# Altium schematic symbol library discret_ic.schlib: 65 symbols
Pins are listed as number, name and electrical type; pins without a type are passive.

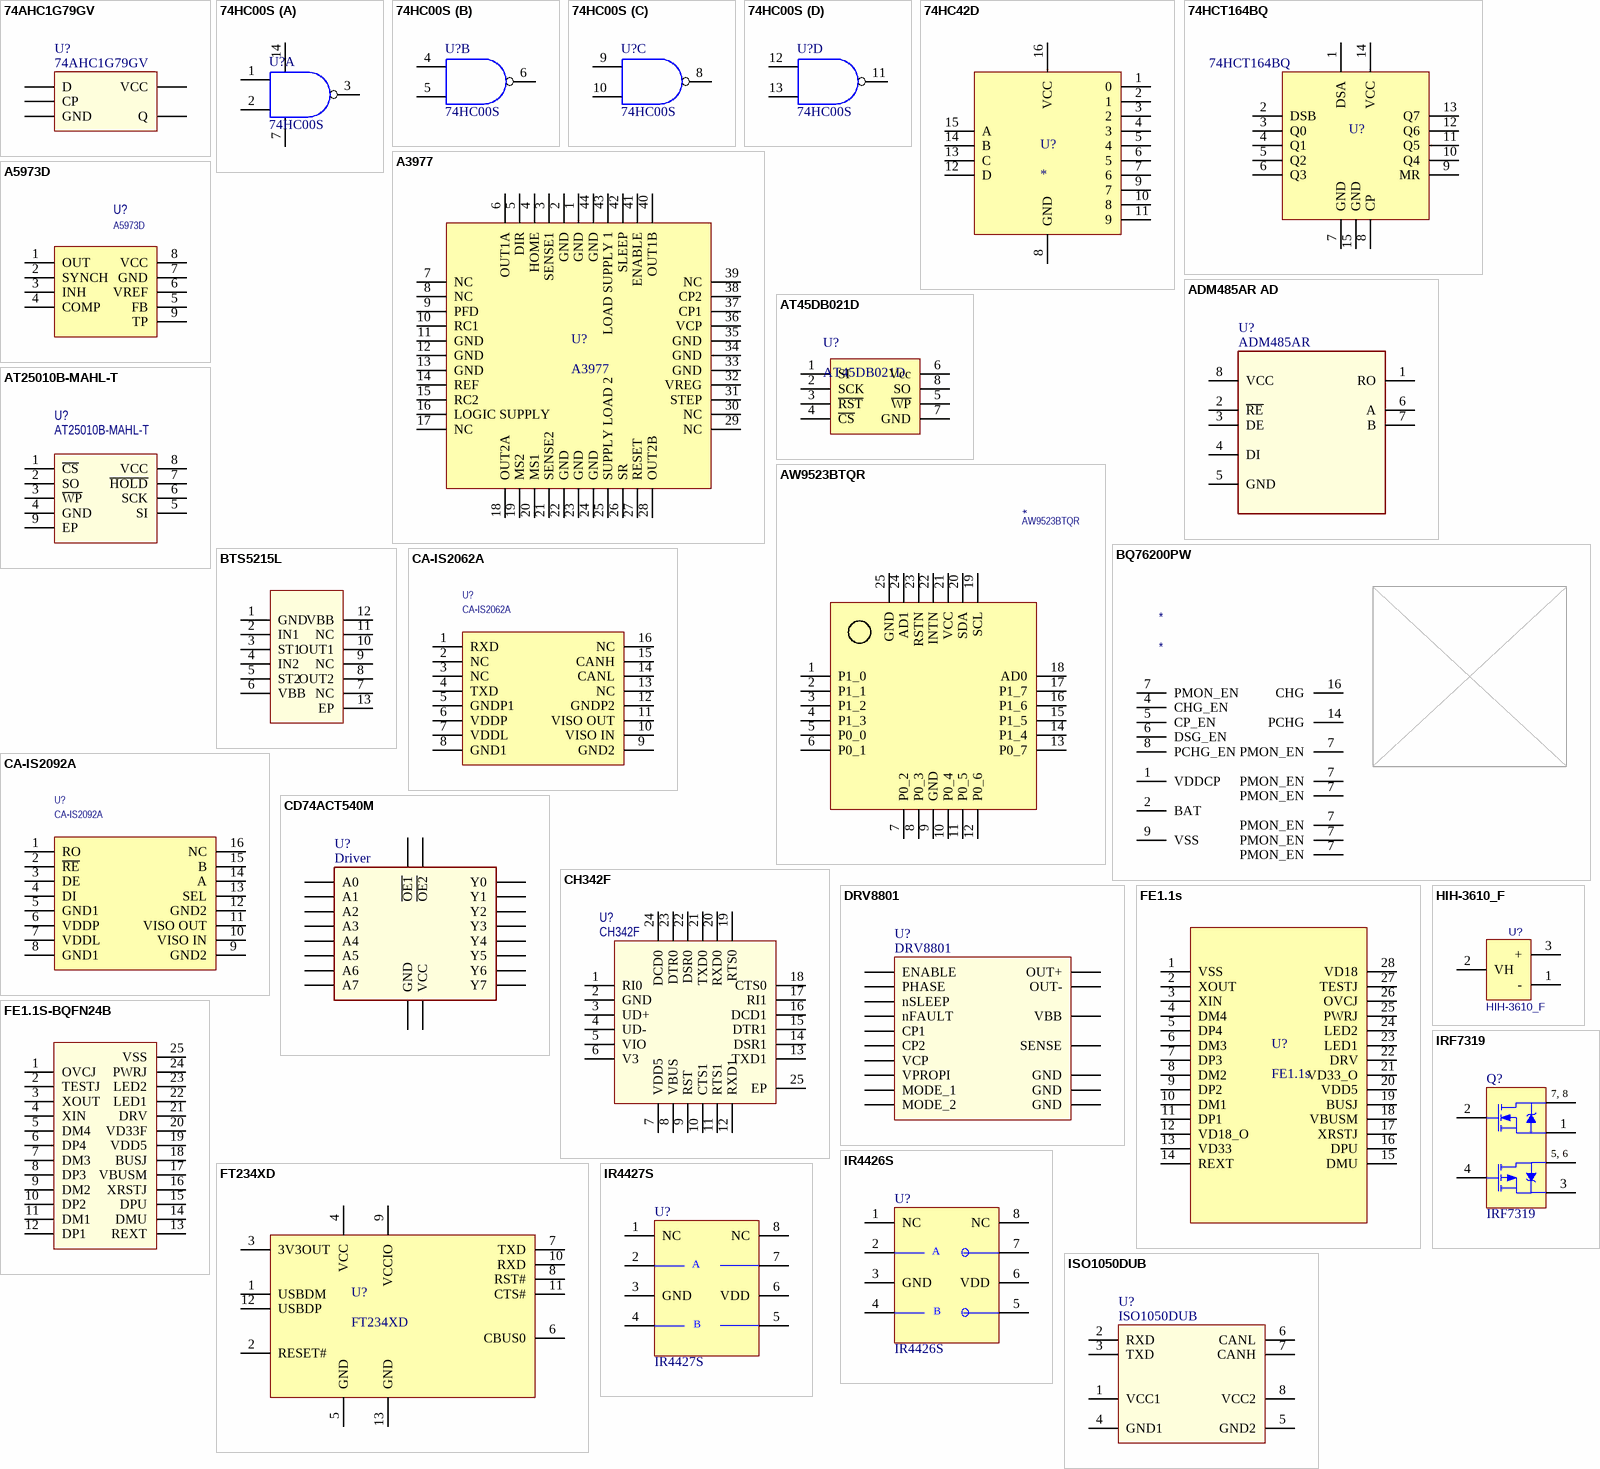
[diagram p0: symbols 74AHC1G79GV to ISO1050DUB]

## 74AHC1G79GV
designator U?
Single D-type flip-flop; positive-edge trigger
footprint SOT753 ( SC-74A )
pins: 1 D, 2 CP, 3 GND, 4 Q, 6 VCC

## 74HC00S
designator U?
Quadruple 2-Input Positive-NAND Gate; Published: 8-Jun-2000; LatestRevisionDate: 13-Apr-2006; LatestRevisionNote: IPC-7351 Footprint Added.; DatasheetVersion: May-1997; PackageVersion: Jan-1998; PackageReference: D014; Publisher: Altium Limited; PackageDescription: 14-Pin Small Outline Integrated Circuit 1.27 mm Pitch; Code_IPC: SOIC127P600-14; ComponentLink1Description: Manufacturer Link; ComponentLink1URL: http://www.ti.com/; ComponentLink2Description: Datasheet; ComponentLink2URL: http://www-s.ti.com/sc/ds/sn74hc00.pdf
footprint SO-14 (14-Pin Small Outline Integrated Circuit 1.27 mm Pitch, IPC Medium Density)
footprint SO-14_L (14-Pin Small Outline Integrated Circuit 1.27 mm Pitch, IPC High Density)
footprint SO-14_M (14-Pin Small Outline Integrated Circuit 1.27 mm Pitch, IPC Low Density)
signal-integrity model SN74HC00D
part A pins: 1 A, 2 B, 3 Y, 7 GND, 14 VCC
part B pins: 4 A, 5 B, 6 Y
part C pins: 8 Y, 9 A, 10 B
part D pins: 11 Y, 12 A, 13 B

## 74HC42D
designator U?
footprint SO-16
pins: 1 0, 2 1, 3 2, 4 3, 5 4, 6 5, 7 6, 8 GND, 9 7, 10 8, 11 9, 12 D, 13 C, 14 B, 15 A, 16 VCC

## 74HCT164BQ
designator U?
footprint DVQFN-14 (QFN, 14-Leads, Body 2,50x3,00mm, Pitch 0,50mm, Thermal Pad 1,00x1,50mm, IPC Low Density)
pins: 1 DSA, 2 DSB, 3 Q0, 4 Q1, 5 Q2, 6 Q3, 7 GND, 8 CP, 9 MR, 10 Q4, 11 Q5, 12 Q6, 13 Q7, 14 VCC, 15 GND

## A3977
designator U?
footprint PLCC44 (Leaded Chip Carrier, 44-Leads, Body 9,90x17,53mm, Pitch 1,270mm, IPC Medium Density)
pins: 1 GND, 2 GND, 3 SENSE1, 4 HOME, 5 DIR, 6 OUT1A, 7 NC, 8 NC, 9 PFD, 10 RC1, 11 GND, 12 GND, 13 GND, 14 REF, 15 RC2, 16 LOGIC SUPPLY, 17 NC, 18 OUT2A, 19 MS2, 20 MS1, 21 SENSE2, 22 GND, 23 GND, 24 GND, 25 SUPPLY LOAD 2, 26 SR, 27 RESET, 28 OUT2B, 29 NC, 30 NC, 31 STEP, 32 VREG, 33 GND, 34 GND, 35 GND, 36 VCP, 37 CP1, 38 CP2, 39 NC, 40 OUT1B, 41 ENABLE, 42 SLEEP, 43 LOAD SUPPLY 1, 44 GND

## A5973D
designator U?
Step-up/down IC
footprint HSOP-8
pins: 1 OUT "Switch Collector", 2 SYNCH "Switch Emitter", 3 INH "Timing capacitor", 4 COMP, 5 FB "Comparator Inverting Input", 6 VREF, 7 GND "Ipk Sense", 8 VCC "Driver Collector", 9 TP "Comparator Inverting Input"

## ADM485AR AD
designator U?, comment ADM485AR
1/1 Transceiver RS422, RS485 8-SOIC -40 to +85; Part: ADM485AR
footprint SOIC-8 TI
pins: 1 RO, 2 ~{RE}, 3 DE, 4 DI, 5 GND, 6 A, 7 B, 8 VCC

## AT45DB021D
designator U?
2Mbit memory IC
footprint SO-8 (SOIC, 8-Leads, Body 4.9x3.9mm, Pitch 1.27mm, IPC Medium Density)
pins: 1 SI "Serial Input", 2 SCK "Serial clock", 3 ~{RST} "Reset", 4 ~{CS} "Chip select", 5 ~{WP} "Write protect", 6 Vcc, 7 GND, 8 SO "Serial output"

## AT25010B-MAHL-T
designator U?
SPI EEPROM
footprint UDFN-MU8 (SON, 8-Leads, Body 2x3mm, Pitch 0.5mm, Microchip Recommended)
pins: 1 ~{CS}, 2 SO, 3 ~{WP}, 4 GND, 5 SI, 6 SCK, 7 ~{HOLD}, 8 VCC, 9 EP

## AW9523BTQR
designator *
footprint VFQFPN-24_L4.0-W4.0-P0.50-BL-EP2.8
pins: 1 P1_0, 2 P1_1, 3 P1_2, 4 P1_3, 5 P0_0, 6 P0_1, 7 P0_2, 8 P0_3, 9 GND, 10 P0_4, 11 P0_5, 12 P0_6, 13 P0_7, 14 P1_4, 15 P1_5, 16 P1_6, 17 P1_7, 18 AD0, 19 SCL, 20 SDA, 21 VCC, 22 INTN, 23 RSTN, 24 AD1, 25 GND

## BQ76200PW
designator *
pins: 1 VDDCP, 2 BAT, 4 CHG_EN, 5 CP_EN, 6 DSG_EN, 7 PMON_EN, 7 PMON_EN, 7 PMON_EN, 7 PMON_EN, 7 PMON_EN, 7 PMON_EN, 7 PMON_EN, 8 PCHG_EN, 9 VSS, 14 PCHG, 16 CHG

## BTS5215L
designator U?  (value not drawn)
Manufacturer: Infineon(英飞凌); Add into BOM: yes; Number of Channels: 2; Control Input Logic: Active High; Voltage - Supply: 5.5V~40V; RDS(on): 90mΩ; Symbol: BTS5215L; Device: BTS5215L; LCSC Part Name: BTS5215L; Supplier Part: C386329; Manufacturer Part: BTS5215L; Supplier Footprint: DSO-12; JLCPCB Part Class: Extended Part; Datasheet: https://atta.szlcsc.com/upload/public/pdf/source/20190419/C386329_63BABE9538D17D077D4C8D10D988F5A3.pdf; Supplier: LCSC; Convert to PCB: yes; Type: High-side switch; Operating Temperature	-: -40℃~+150℃
footprint SOP100P1030X260-13N-1-V (SOP,1.00mm pitch;12 pin,7.50mm W X 6.40mm L X 2.60mm H body (w/thermal tab))
pins: 1 GND, 2 IN1, 3 ST1, 4 IN2, 5 ST2, 6 VBB, 7 NC, 8 OUT2, 9 NC, 10 OUT1, 11 NC, 12 VBB, 13 EP

## CA-IS2062A
designator U?
ISO CAN_transiever; Part: CA-IS2062A; JLCPCBPart: C22438481
footprint LGA-16_L5.2-W4.7-P0.65-TL_CA-IS2062A-FRANK2
pins: 1 RXD "Driver input", 2 NC "Ground", 3 NC "Supply voltage", 4 TXD "Receiver output", 5 GNDP1 "No connection", 6 VDDP "Low bus output", 7 VDDL "High bus outpu", 8 GND1 "No connection", 9 GND2 "Driver input", 10 VISO IN "Ground", 11 VISO OUT "Supply voltage", 12 GNDP2 "Receiver output", 13 NC "No connection", 14 CANL "Low bus output", 15 CANH "High bus outpu", 16 NC "No connection"

## CA-IS2092A
designator U?
ISO RS485; Part: CA-IS2092A; JLCPCBPart: C18185406
footprint LGA-16_L5.2-W4.7-P0.65-TL_CA-IS2062A-FRANK2
pins: 1 RO "Driver input", 2 ~{RE} "Ground", 3 DE "Supply voltage", 4 DI "Receiver output", 5 GND1 "No connection", 6 VDDP "Low bus output", 7 VDDL "High bus outpu", 8 GND1 "No connection", 9 GND2 "Driver input", 10 VISO IN "Ground", 11 VISO OUT "Supply voltage", 12 GND2 "Receiver output", 13 SEL "No connection", 14 A "Low bus output", 15 B "High bus outpu", 16 NC "No connection"

## CD74ACT540M
designator U?, comment Driver
LOGIC, BUFF/DVR TRI-ST OCTAL, 20SOICW; Type de buffer: Memoire tampon, inverseur; Famille Logique/ Numero de base: 74ACT540; Type de boitier CI logique: SOIC; Nombre de broches: 20Broche(s); Tension, alimentation min.: 4.5V; Part: CD74ACT540M
footprint SOIC-20 TI
pins: 1 ~{OE1}, 2 A0, 3 A1, 4 A2, 5 A3, 6 A4, 7 A5, 8 A6, 9 A7, 10 GND, 11 Y7, 12 Y6, 13 Y5, 14 Y4, 15 Y3, 16 Y2, 17 Y1, 18 Y0, 19 ~{OE2}, 20 VCC

## CH342F
designator U?
Part: CH342F
footprint QFN50P400X400X80-25N-D
pins: 1 RI0, 2 GND, 3 UD+, 4 UD-, 5 VIO, 6 V3, 7 VDD5, 8 VBUS, 9 RST, 10 CTS1, 11 RTS1, 12 RXD1, 13 TXD1, 14 DSR1, 15 DTR1, 16 DCD1, 17 RI1, 18 CTS0, 19 RTS0, 20 RXD0, 21 TXD0, 22 DSR0, 23 DTR0, 24 DCD0, 25 EP

## DRV8801
designator U?
Full-Bridge Motor Driver
footprint WQFN-16
pins: 1 PHASE, 2 GND, 3 nSLEEP, 4 ENABLE, 5 MODE_2, 6 OUT+, 7 SENSE, 8 VBB, 9 OUT-, 10 CP1, 11 CP2, 12 GND, 13 VCP, 14 VPROPI, 15 nFAULT, 16 MODE_1, 17 GND

## FE1.1s
designator U?
footprint TSOP64P600X160-28N (TSOP, 28-Leads, Body 9,90x3,90mm, Pitch 0,64mm, IPC Medium Density)
pins: 1 VSS, 2 XOUT, 3 XIN, 4 DM4, 5 DP4, 6 DM3, 7 DP3, 8 DM2, 9 DP2, 10 DM1, 11 DP1, 12 VD18_O, 13 VD33, 14 REXT, 15 DMU, 16 DPU, 17 XRSTJ, 18 VBUSM, 19 BUSJ, 20 VDD5, 21 VD33_O, 22 DRV, 23 LED1, 24 LED2, 25 PWRJ, 26 OVCJ, 27 TESTJ, 28 VD18

## FE1.1S-BQFN24B
designator U?  (value not drawn)
Manufacturer: TERMINUS; Add into BOM: yes; Symbol: FE1.1S-BQFN24B; Device: FE1.1S-BQFN24B; LCSC Part Name: USB 2.0 4-端口集线器控制器; Supplier Part: C6776948; Manufacturer Part: FE1.1S-BQFN24B; Supplier Footprint: WQFN-24; JLCPCB Part Class: Extended Part; Datasheet: https://atta.szlcsc.com/upload/public/pdf/source/20230614/ED67D6CC784350C7C68F98E68B5A1A46.pdf; Supplier: LCSC; Convert to PCB: yes
footprint WQFN-24_L4.0-W4.0-P0.50-TL-EP2.7
pins: 1 OVCJ, 2 TESTJ, 3 XOUT, 4 XIN, 5 DM4, 6 DP4, 7 DM3, 8 DP3, 9 DM2, 10 DP2, 11 DM1, 12 DP1, 13 REXT, 14 DMU, 15 DPU, 16 XRSTJ, 17 VBUSM, 18 BUSJ, 19 VDD5, 20 VD33F, 21 DRV, 22 LED1, 23 LED2, 24 PWRJ, 25 VSS

## FT234XD
designator U?
footprint DFN-12
pins: 1 USBDM, 2 RESET#, 3 3V3OUT, 4 VCC, 5 GND, 6 CBUS0, 7 TXD, 8 RST#, 9 VCCIO, 10 RXD, 11 CTS#, 12 USBDP, 13 GND

## HIH-3610_F
designator U?
footprint TO-92SF
pins: 1 - "GND", 2 VH, 3 + "Vcc"

## IR4426S
designator U?
Dual High-Speed 1.5A MOSFET Driver; Published: 16-Jan-2001; LatestRevisionDate: 13-Apr-2006; LatestRevisionNote: IPC-7351 Footprint Added.; DatasheetVersion: Mar-1993; PackageReference: NSO8; Publisher: Altium Limited; PackageDescription: 8-Pin Small Outline Integrated Circuit 1.27 mm Pitch; Code_JEDEC: MS-012-AA; Code_IPC: SOIC127P600-8; ComponentLink1Description: Manufacturer Link; ComponentLink1URL: http://www.maxim-ic.com/; ComponentLink2Description: Datasheet; ComponentLink2URL: http://pdfserv.maxim-ic.com/en/ds/MAX4426-MAX4428.pdf
footprint SO-8 (SOIC, 8-Leads, Body 4.9x3.9mm, Pitch 1.27mm, IPC Medium Density)
footprint SO-8_L (SOIC, 8-Leads, Body 4.9x3.9mm, Pitch 1.27mm, IPC High Density)
footprint SO-8_M (SOIC, 8-Leads, Body 4.9x3.9mm, Pitch 1.27mm, IPC Low Density)
pins: 1 NC, 2 INA, 3 GND, 4 INB, 5 ~{OUTB}, 6 VDD, 7 ~{OUTA}, 8 NC
text: A; B

## IR4427S
designator U?
Dual High-Speed 1.5A MOSFET Driver; Published: 16-Jan-2001; LatestRevisionDate: 13-Apr-2006; LatestRevisionNote: IPC-7351 Footprint Added.; DatasheetVersion: Mar-1993; PackageReference: NSO8; Publisher: Altium Limited; PackageDescription: 8-Pin Small Outline Integrated Circuit 1.27 mm Pitch; Code_JEDEC: MS-012-AA; Code_IPC: SOIC127P600-8; ComponentLink1Description: Manufacturer Link; ComponentLink1URL: http://www.maxim-ic.com/; ComponentLink2Description: Datasheet; ComponentLink2URL: http://pdfserv.maxim-ic.com/en/ds/MAX4426-MAX4428.pdf
footprint SO-8 (SOIC, 8-Leads, Body 4.9x3.9mm, Pitch 1.27mm, IPC Medium Density)
footprint SO-8_L (SOIC, 8-Leads, Body 4.9x3.9mm, Pitch 1.27mm, IPC High Density)
footprint SO-8_M (SOIC, 8-Leads, Body 4.9x3.9mm, Pitch 1.27mm, IPC Low Density)
pins: 1 NC, 2 INA, 3 GND, 4 INB, 5 OUTB, 6 VDD, 7 OUTA, 8 NC
text: A; B

## IRF7319
designator Q?
HEXFET Power MOSFET; Published: 8-Jun-2000; LatestRevisionDate: 13-Apr-2006; LatestRevisionNote: IPC-7351 Footprint Added.; DatasheetVersion: Sep-1997; PackageVersion: Feb-2001; PackageReference: SO-8; Publisher: Altium Limited; PackageDescription: 8-Pin Plastic Small Outline Integrated Circuit 1.27 mm Pitch; Code_JEDEC: MS-012-AA; Code_IPC: SOIC127P600-8; ComponentLink1Description: Manufacturer Link; ComponentLink1URL: http://www.irf.com/; ComponentLink2Description: Datasheet; ComponentLink2URL: http://www.irf.com/product-info/datasheets/data/IRFN140.pdf
footprint SO-8 (SOIC, 8-Leads, Body 4.9x3.9mm, Pitch 1.27mm, IPC Medium Density)
footprint SO-8_L (SOIC, 8-Leads, Body 4.9x3.9mm, Pitch 1.27mm, IPC High Density)
footprint SO-8_M (SOIC, 8-Leads, Body 4.9x3.9mm, Pitch 1.27mm, IPC Low Density)
pins: 1 S1, 2 G1, 3 S2, 4 G2, 5 D2, 6 D2, 7 D1, 8 D1
text: 7, 8; 5, 6

## ISO1050DUB
designator U?
Isolated CAN Transceiver
footprint SOP-8
pins: 1 VCC1, 2 RXD, 3 TXD, 4 GND1, 5 GND2, 6 CANL, 7 CANH, 8 VCC2

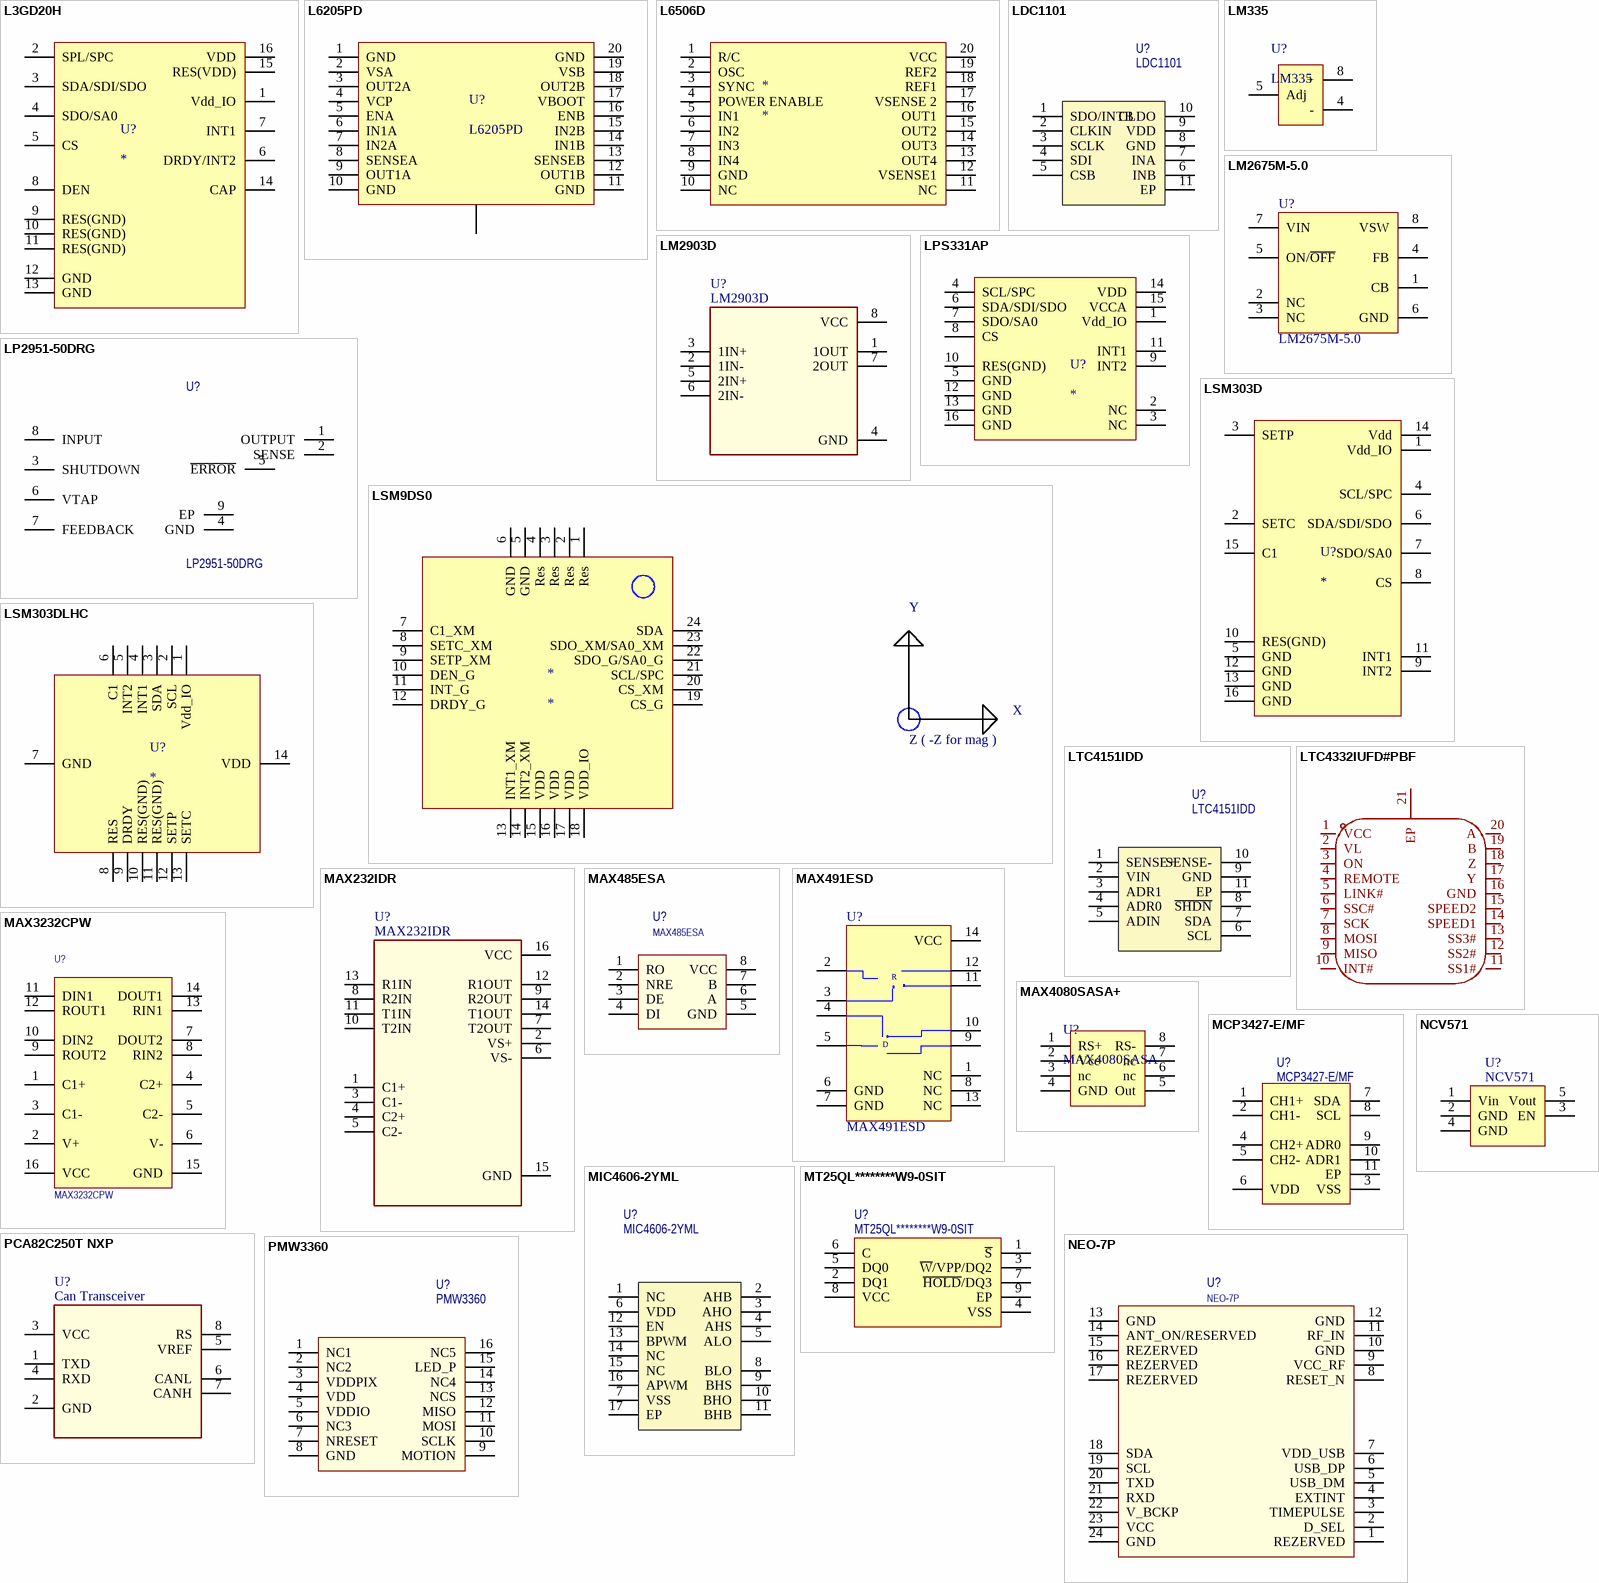
[diagram p1: symbols L3GD20H to PMW3360]

## L3GD20H
designator U?
footprint L3GD20H
pins: 1 Vdd_IO, 2 SPL/SPC, 3 SDA/SDI/SDO, 4 SDO/SA0, 5 CS, 6 DRDY/INT2, 7 INT1, 8 DEN, 9 RES(GND), 10 RES(GND), 11 RES(GND), 12 GND, 13 GND, 14 CAP, 15 RES(VDD), 16 VDD

## L6205PD
designator U?
footprint PowerSO20withPAD
pins: 1 GND, 2 VSA, 3 OUT2A, 4 VCP, 5 ENA, 6 IN1A, 7 IN2A, 8 SENSEA, 9 OUT1A, 10 GND, 11 GND, 12 OUT1B, 13 SENSEB, 14 IN1B, 15 IN2B, 16 ENB, 17 VBOOT, 18 OUT2B, 19 VSB, 20 GND, 21 GND

## L6506D
designator *
footprint SOIC20N (SOIC, 20-Leads, Body 12,80x7,50mm, Pitch 1,27mm, IPC Medium Density)
pins: 1 R/C, 2 OSC, 3 SYNC, 4 POWER ENABLE, 5 IN1, 6 IN2, 7 IN3, 8 IN4, 9 GND, 10 NC, 11 NC, 12 VSENSE1, 13 OUT4, 14 OUT3, 15 OUT2, 16 OUT1, 17 VSENSE 2, 18 REF1, 19 REF2, 20 VCC

## LDC1101
designator U?
Part: LDC1101
footprint VSON-10_L3.0-W3.0-P0.50-BL-EP_TPS62410DRCR
pins: 1 SDO/INTB "Kelvin Sense of the VIN Pin.", 2 CLKIN "Supply Voltage Input. Accepts 7V to 80V. The voltage at this pin is monitored by the onboard ADC with a fullscale input range of 102.4V. SENSE+ must be connected  to VIN for proper ADC readout.", 3 SCLK "I2C Device Address Inputs. Connecting  ADR1 and ADR0 to VIN, GND or leaving the pins open  configures one of nine possible addresses.", 4 SDI "I2C Device Address Inputs. Connecting  ADR1 and ADR0 to VIN, GND or leaving the pins open  configures one of nine possible addresses.", 5 CSB "ADC Input. The onboard ADC measures voltage  range between 0V and 2.048V. Tie to GND if unused.", 6 INB "I2C Bus Clock Input. Data is shifted in and out at  the SDA pin on rising edges of SCL. This pin is driven  by an open-collector output from a master controller. An  external pull-up resistor or current source is required (See Datasheet)", 7 INA "I2C Bus Data Input/Output. Used  for shifting in address, command or data bits and sending  out data. An external pull-up resistor or current source  is required and can be placed between SDA and VIN.   The voltage at SDA is (See Datasheet)", 8 GND "Shutdown Input. Internally pulled  up to 6.3V. Pull this pin below 1V to force the LTC4151  into shutdown mode. Leave this pin open if unused.", 9 VDD "Device Ground.", 10 CLDO "High Side Current Sense Input. Connect an  external sense resistor between SENSE+  and SENSE-.  The differential voltage between SENSE+ and SENSE-  is  monitored by the onboard ADC with a full-scale sense  voltage of 81.92mV.", 11 EP "I2C Bus Clock Input. Data is shifted in and out at  the SDA pin on rising edges of SCL. This pin is driven  by an open-collector output from a master controller. An  external pull-up resistor or current source is required (See Datasheet)"

## LM335
designator U?
Temperature sensor
footprint SO-8 (SOIC, 8-Leads, Body 4.9x3.9mm, Pitch 1.27mm, IPC Medium Density)
pins: 4 - "GND", 5 Adj, 8 + "Vcc"

## LM2675M-5.0
designator U?
SIMPLE SWITCHER® Power Converter High Efficiency 1A Step-Down Voltage Regulator, 8-pin Narrow SOIC; Manufacturer: National Semiconductor; PackageTopMarking: NSZXTT*2675*M5.0; PowerWise: N; Published: 4-Dec-2008; DatasheetVersion: Jun-2005; PackageVersion: revM, May-2009; PackageReference: M08A; Publisher: Altium Limited; PackageDescription: SOIC Narrow, 4.9 x 3.9 x 1.45mm, 8 Lead, 1.27mm Pitch; Supplier 1: Farnell; Supplier Part Number 1: 9489746; Part: LM2675M-5.0; RoHS: N; PinCount: 8; CompType: Switcher; Code_JEDEC: MS-012-AA; Code_IPC: SOIC127P600-8; ComponentLink1Description: LM2675 Datasheet; ComponentLink1URL: http://www.national.com/ds/LM/LM2675.pdf; ComponentLink2Description: LM2675 Web Page; ComponentLink2URL: http://www.national.com/pf/LM/LM2675.html; ComponentLink3Description: M08A Package Page; ComponentLink3URL: http://www.national.com/packaging/folders/m08a.html
footprint SO-8 (SOIC, 8-Leads, Body 4.9x3.9mm, Pitch 1.27mm, IPC Medium Density)
footprint SO-8_L (SOIC, 8-Leads, Body 4.9x3.9mm, Pitch 1.27mm, IPC High Density)
footprint SO-8_M (SOIC, 8-Leads, Body 4.9x3.9mm, Pitch 1.27mm, IPC Low Density)
pins: 1 CB, 2 NC, 3 NC, 4 FB, 5 ON/~{OFF}, 6 GND, 7 VIN, 8 VSW

## LM2903D
designator U?
Dual differential comparator, automotive grade 8-SOIC -40 to 125; Part: LM2903D
footprint SOIC-8 TI
pins: 1 1OUT, 2 1IN-, 3 1IN+, 4 GND, 5 2IN+, 6 2IN-, 7 2OUT, 8 VCC

## LP2951-50DRG
designator U?
pins: 1 OUTPUT, 2 SENSE, 3 SHUTDOWN, 4 GND, 5 ~{ERROR}, 6 VTAP, 7 FEEDBACK, 8 INPUT, 9 EP

## LPS331AP
designator U?
footprint HCLGA-16L
pins: 1 Vdd_IO, 2 NC, 3 NC, 4 SCL/SPC, 5 GND, 6 SDA/SDI/SDO, 7 SDO/SA0, 8 CS, 9 INT2, 10 RES(GND), 11 INT1, 12 GND, 13 GND, 14 VDD, 15 VCCA, 16 GND

## LSM9DS0
designator *
footprint LSM9DS0
pins: 1 Res, 2 Res, 3 Res, 4 Res, 5 GND, 6 GND, 7 C1_XM, 8 SETC_XM, 9 SETP_XM, 10 DEN_G, 11 INT_G, 12 DRDY_G, 13 INT1_XM, 14 INT2_XM, 15 VDD, 16 VDD, 17 VDD, 18 VDD_IO, 19 CS_G, 20 CS_XM, 21 SCL/SPC, 22 SDO_G/SA0_G, 23 SDO_XM/SA0_XM, 24 SDA
text: Y; X; Z ( -Z for mag )

## LSM303D
designator U?
footprint HCLGA-16L
pins: 1 Vdd_IO, 2 SETC, 3 SETP, 4 SCL/SPC, 5 GND, 6 SDA/SDI/SDO, 7 SDO/SA0, 8 CS, 9 INT2, 10 RES(GND), 11 INT1, 12 GND, 13 GND, 14 Vdd, 15 C1, 16 GND

## LSM303DLHC
designator U?
footprint LGA14
pins: 1 Vdd_IO, 2 SCL, 3 SDA, 4 INT1, 5 INT2, 6 C1, 7 GND, 8 RES, 9 DRDY, 10 RES(GND), 11 RES(GND), 12 SETP, 13 SETC, 14 VDD

## LTC4151IDD
designator U?
footprint DFN 10/LT-DD-10_V (SON, 10-Leads, Body 3x3mm, Pitch 0.5mm, Thermal Pad 2.38x1.65mm)
pins: 1 SENSE+ "Kelvin Sense of the VIN Pin.", 2 VIN "Supply Voltage Input. Accepts 7V to 80V. The voltage at this pin is monitored by the onboard ADC with a fullscale input range of 102.4V. SENSE+ must be connected  to VIN for proper ADC readout.", 3 ADR1 "I2C Device Address Inputs. Connecting  ADR1 and ADR0 to VIN, GND or leaving the pins open  configures one of nine possible addresses.", 4 ADR0 "I2C Device Address Inputs. Connecting  ADR1 and ADR0 to VIN, GND or leaving the pins open  configures one of nine possible addresses.", 5 ADIN "ADC Input. The onboard ADC measures voltage  range between 0V and 2.048V. Tie to GND if unused.", 6 SCL "I2C Bus Clock Input. Data is shifted in and out at  the SDA pin on rising edges of SCL. This pin is driven  by an open-collector output from a master controller. An  external pull-up resistor or current source is required (See Datasheet)", 7 SDA "I2C Bus Data Input/Output. Used  for shifting in address, command or data bits and sending  out data. An external pull-up resistor or current source  is required and can be placed between SDA and VIN.   The voltage at SDA is (See Datasheet)", 8 ~{SHDN} "Shutdown Input. Internally pulled  up to 6.3V. Pull this pin below 1V to force the LTC4151  into shutdown mode. Leave this pin open if unused.", 9 GND "Device Ground.", 10 SENSE- "High Side Current Sense Input. Connect an  external sense resistor between SENSE+  and SENSE-.  The differential voltage between SENSE+ and SENSE-  is  monitored by the onboard ADC with a full-scale sense  voltage of 81.92mV.", 11 EP "I2C Bus Clock Input. Data is shifted in and out at  the SDA pin on rising edges of SCL. This pin is driven  by an open-collector output from a master controller. An  external pull-up resistor or current source is required (See Datasheet)"

## LTC4332IUFD#PBF
designator U?  (value not drawn)
Manufacturer: ADI(亚德诺); Add into BOM: yes; Input Type: Differential; Supply Voltage: 3V~5.5V; Number of Channels: 2; Input Capacitance: 10pF; Symbol: LTC4332IUFD#PBF; Device: LTC4332IUFD#PBF; LCSC Part Name: LTC4332 坚固差分链路上的SPI扩展器; Supplier Part: C688168; Manufacturer Part: LTC4332IUFD#PBF; Supplier Footprint: QFN-20-EP(4x5); JLCPCB Part Class: Extended Part; Datasheet: https://atta.szlcsc.com/upload/public/pdf/source/20200917/C688165_8F0681779CF4A097C94491F8B31278DE.pdf; Supplier: LCSC; Convert to PCB: yes; Type: Distributor; Output Type: Differential; Signal Conditioning: -; Operating Temperature: -40℃~+85℃
footprint QFN-20_L5.0-W4.0-P0.50-BL-EP-1
pins: 1 VCC, 2 VL, 3 ON, 4 REMOTE, 5 LINK#, 6 SSC#, 7 SCK, 8 MOSI, 9 MISO, 10 INT#, 11 SS1#, 12 SS2#, 13 SS3#, 14 SPEED1, 15 SPEED2, 16 GND, 17 Y, 18 Z, 19 B, 20 A, 21 EP

## MAX232IDR
designator U?
Dual EIA-232 driver and receiver 16-SOIC -40 to 85; Part: MAX232IDR
footprint SOIC-16
pins: 1 C1+, 2 VS+, 3 C1-, 4 C2+, 5 C2-, 6 VS-, 7 T2OUT, 8 R2IN, 9 R2OUT, 10 T2IN, 11 T1IN, 12 R1OUT, 13 R1IN, 14 T1OUT, 15 GND, 16 VCC

## MAX485ESA
designator U?
RS485 Half Duplex Convertor
footprint SO-8_M (SOIC, 8-Leads, Body 4.9x3.9mm, Pitch 1.27mm, IPC Low Density)
pins: 1 RO, 2 NRE, 3 DE, 4 DI, 5 GND, 6 A, 7 B, 8 VCC

## MAX491ESD
designator U?
Low-Power, Slew-Rate-Limited RS-485/RS-422 Transceiver; Published: 16-Jan-2001; LatestRevisionDate: 13-Apr-2006; LatestRevisionNote: IPC-7351 Footprint Added.; DatasheetVersion: Feb-1996; PackageReference: NSO14; Publisher: Altium Limited; PackageDescription: 14-Pin Small Outline Integrated Circuit 1.27 mm Pitch; Code_JEDEC: MS-012-AB; Code_IPC: SOIC127P600-14; ComponentLink1Description: Manufacturer Link; ComponentLink1URL: http://www.maxim-ic.com/; ComponentLink2Description: Datasheet; ComponentLink2URL: http://pdfserv.maxim-ic.com/en/ds/MAX1487-MAX491.pdf
footprint SO-14 (14-Pin Small Outline Integrated Circuit 1.27 mm Pitch, IPC Medium Density)
footprint SO-14_L (14-Pin Small Outline Integrated Circuit 1.27 mm Pitch, IPC High Density)
footprint SO-14_M (14-Pin Small Outline Integrated Circuit 1.27 mm Pitch, IPC Low Density)
pins: 1 NC, 2 RO, 3 ~{RE}, 4 DE, 5 DI, 6 GND, 7 GND, 8 NC, 9 Y, 10 Z, 11 B, 12 A, 13 NC, 14 VCC
text: R; D

## MAX3232CPW
designator U?
RS232
footprint TSSOP-16
pins: 1 C1+, 2 V+, 3 C1-, 4 C2+, 5 C2-, 6 V-, 7 DOUT2, 8 RIN2, 9 ROUT2, 10 DIN2, 11 DIN1, 12 ROUT1, 13 RIN1, 14 DOUT1, 15 GND, 16 VCC

## MAX4080SASA+
designator U?, comment MAX4080SASA
Current-Sense Amplifier with  Voltage Output
footprint SO-8 (SOIC, 8-Leads, Body 4.9x3.9mm, Pitch 1.27mm, IPC Medium Density)
pins: 1 RS+, 2 Vcc, 3 nc, 4 GND, 5 Out, 6 nc, 7 nc, 8 RS-

## MCP3427-E/MF
designator U?
footprint DFN-MF10 (SON, 10-Leads, Body 3x3mm, Pitch 0.5mm, Microchip Recommended)
pins: 1 CH1+, 2 CH1-, 3 VSS, 4 CH2+, 5 CH2-, 6 VDD, 7 SDA, 8 SCL, 9 ADR0, 10 ADR1, 11 EP

## MIC4606-2YML
designator U?
full bridge MIC4606-2YML
footprint QFN16/QFN65P400X400X100 (QFN, 14-Leads, Body 3,00x4,00mm, Pitch 0,50mm, Thermal Pad 1,00x1,50mm, IPC Low Density)
pins: 1 NC, 2 AHB, 3 AHO, 4 AHS, 5 ALO, 6 VDD, 7 VSS, 8 BLO, 9 BHS, 10 BHO, 11 BHB, 12 EN, 13 BPWM, 14 NC, 15 NC, 16 APWM, 17 EP

## MT25QL********W9-0SIT
designator U?
Flash Memory
footprint W-PDFN-8 (MLP8) – 8mm × 6mm  Seating (SON, 8-Leads, Body 6,00x8,00mm, Pitch 1,27mm, Thermal Pad 4,30x3,40mm, IPC Medium Density)
pins: 1 ~{S} "Chip select: When S# is HIGH, the device is deselected and DQ1 is at High-Z. When in extended SPI mode, with the device deselected, DQ1 is tri-stated. Unless an internal PROGRAM, ERASE, or WRITE STATUS REGISTER cycle is in progress, the device enters standby power mode (not deep power-down mode). Driving S# LOW enables the device, placing it in the active power mode. After power-up, a falling edge on S# is required prior to the start of any command.", 2 DQ1 "Serial data:Transfers data serially out of the device. Data is shifted out on the falling edge of the clock. DQ1 is used for input/output during the following operations: DUAL INPUT FAST PROGRAM, QUAD INPUT FAST PROGRAM, DUAL INPUT EXTENDED FAST PROGRAM, and QUAD INPUT EXTENDED FAST PROGRAM. When used for input, data is latched on the rising edge of the clock.", 3 ~{W}/VPP/DQ2, 4 VSS "Ground: Reference for the VCC supply voltage.", 5 DQ0 "Serial data: Transfers data serially into the device. It receives command codes, addresses, and the data to be programmed. Values are latched on the rising edge of the clock. DQ0 is used for input/output during the following operations: DUAL OUTPUT FAST READ, QUAD OUTPUT FAST READ, DUAL INPUT/OUTPUT FAST READ, and QUAD INPUT/OUTPUT FAST READ. When used for output, data is shifted out on the falling edge of the clock.", 6 C "Clock: Provides the timing of the serial interface. Commands, addresses, or data present at serial data inputs are latched on the rising edge of the clock. Data is shifted out on the falling edge of the clock.", 7 ~{HOLD}/DQ3, 8 VCC "Device core power supply: Source voltage.", 9 EP

## NCV571
designator U?
ultra low power automotive power supply
footprint TSOP-5
pins: 1 Vin "Voltage input", 2 GND "Switch Emitter", 3 EN "Enable", 4 GND "Timing capacitor", 5 Vout "Voltage output"

## NEO-7P
designator U?
GNSS
footprint NEO-7P
pins: 1 REZERVED, 2 D_SEL, 3 TIMEPULSE, 4 EXTINT, 5 USB_DM, 6 USB_DP, 7 VDD_USB, 8 RESET_N, 9 VCC_RF, 10 GND, 11 RF_IN, 12 GND, 13 GND, 14 ANT_ON/RESERVED, 15 REZERVED, 16 REZERVED, 17 REZERVED, 18 SDA, 19 SCL, 20 TXD, 21 RXD, 22 V_BCKP, 23 VCC, 24 GND

## PCA82C250T NXP
designator U?, comment Can Transceiver
1/1 Transceiver Half CANbus 8-SO(); Part: PCA82C250T
footprint SOIC-8 TI
pins: 1 TXD, 2 GND, 3 VCC, 4 RXD, 5 VREF, 6 CANL, 7 CANH, 8 RS

## PMW3360
designator U?
OptoSensor
footprint PMW3360 OptoSensor
pins: 1 NC1, 2 NC2, 3 VDDPIX, 4 VDD, 5 VDDIO, 6 NC3, 7 NRESET, 8 GND, 9 MOTION, 10 SCLK, 11 MOSI, 12 MISO, 13 NCS, 14 NC4, 15 LED_P, 16 NC5

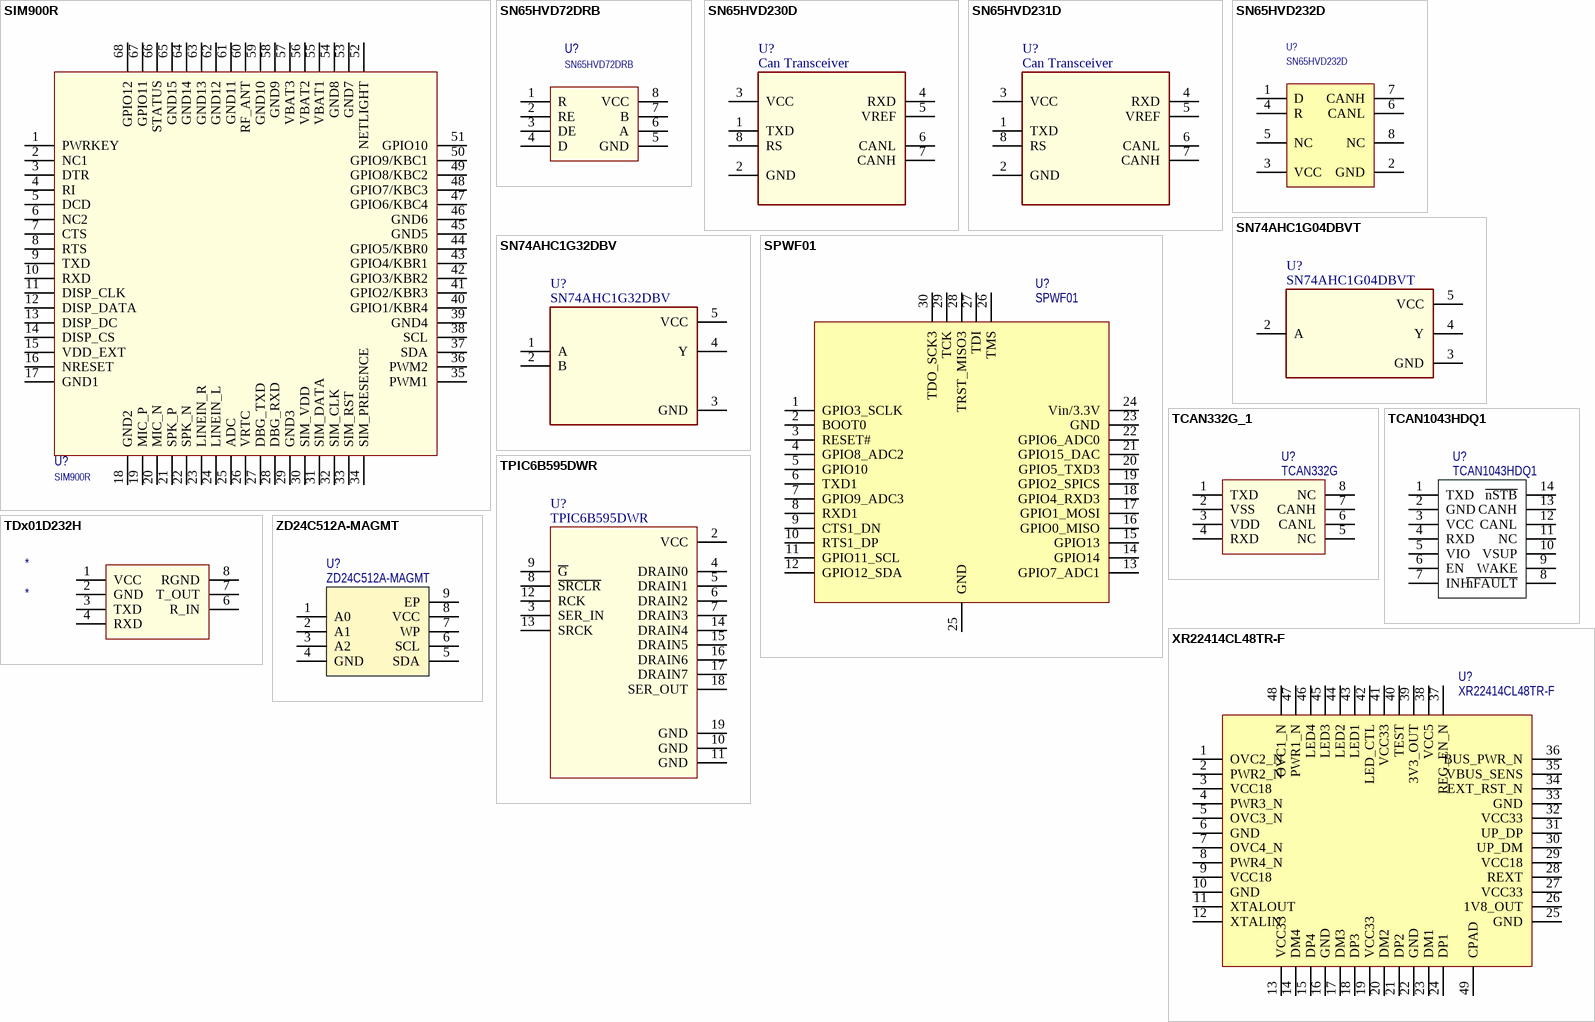
[diagram p2: symbols SIM900R to ZD24C512A-MAGMT]

## SIM900R
designator U?
GSMGPRS
footprint SIM900R
pins: 1 PWRKEY, 2 NC1, 3 DTR, 4 RI, 5 DCD, 6 NC2, 7 CTS, 8 RTS, 9 TXD, 10 RXD, 11 DISP_CLK, 12 DISP_DATA, 13 DISP_DC, 14 DISP_CS, 15 VDD_EXT, 16 NRESET, 17 GND1, 18 GND2, 19 MIC_P, 20 MIC_N, 21 SPK_P, 22 SPK_N, 23 LINEIN_R, 24 LINEIN_L, 25 ADC, 26 VRTC, 27 DBG_TXD, 28 DBG_RXD, 29 GND3, 30 SIM_VDD, 31 SIM_DATA, 32 SIM_CLK, 33 SIM_RST, 34 SIM_PRESENCE, 35 PWM1, 36 PWM2, 37 SDA, 38 SCL, 39 GND4, 40 GPIO1/KBR4, 41 GPIO2/KBR3, 42 GPIO3/KBR2, 43 GPIO4/KBR1, 44 GPIO5/KBR0, 45 GND5, 46 GND6, 47 GPIO6/KBC4, 48 GPIO7/KBC3, 49 GPIO8/KBC2, 50 GPIO9/KBC1, 51 GPIO10, 52 NETLIGHT, 53 GND7, 54 GND8, 55 VBAT1, 56 VBAT2, 57 VBAT3, 58 GND9, 59 GND10, 60 RF_ANT, 61 GND11, 62 GND12, 63 GND13, 64 GND14, 65 GND15, 66 STATUS, 67 GPIO11, 68 GPIO12

## SN65HVD72DRB
designator U?
TI,  RS485 Half Duplex Convertor
footprint VSON8
pins: 1 R, 2 RE, 3 DE, 4 D, 5 GND, 6 A, 7 B, 8 VCC

## SN65HVD230D
designator U?, comment Can Transceiver
TI, 1/1 Transceiver Half CANbus 8-SO(); Part: SN65HVD230D
footprint SOIC-8 TI
pins: 1 TXD, 2 GND, 3 VCC, 4 RXD, 5 VREF, 6 CANL, 7 CANH, 8 RS

## SN65HVD231D
designator U?, comment Can Transceiver
TI, 1/1 Transceiver Half CANbus 8-SO(); Part: SN65HVD231D
footprint SOIC-8 TI
pins: 1 TXD, 2 GND, 3 VCC, 4 RXD, 5 VREF, 6 CANL, 7 CANH, 8 RS

## SN65HVD232D
designator U?
TI,  CAN_transiever
footprint SO-8_M (SOIC, 8-Leads, Body 4.9x3.9mm, Pitch 1.27mm, IPC Low Density)
pins: 1 D "Driver input", 2 GND "Ground", 3 VCC "Supply voltage", 4 R "Receiver output", 5 NC "No connection", 6 CANL "Low bus output", 7 CANH "High bus outpu", 8 NC "No connection"

## SN74AHC1G04DBVT
designator U?
TI, Single 2-V to 5.5-V inverter; Part: SN74AHC1G04DBVT
footprint SOT23-5
pins: 2 A, 3 GND, 4 Y, 5 VCC

## SN74AHC1G32DBV
designator U?
TI, Single 2-input, 2-V to 5.5-V OR gate; Part: SN74AHC1G32DBV
footprint SOT23-5
pins: 1 A, 2 B, 3 GND, 4 Y, 5 VCC

## SPWF01
designator U?
footprint SRWF01-Footprint
pins: 1 GPIO3_SCLK, 2 BOOT0, 3 RESET#, 4 GPIO8_ADC2, 5 GPIO10, 6 TXD1, 7 GPIO9_ADC3, 8 RXD1, 9 CTS1_DN, 10 RTS1_DP, 11 GPIO11_SCL, 12 GPIO12_SDA, 13 GPIO7_ADC1, 14 GPIO14, 15 GPIO13, 16 GPIO0_MISO, 17 GPIO1_MOSI, 18 GPIO4_RXD3, 19 GPIO2_SPICS, 20 GPIO5_TXD3, 21 GPIO15_DAC, 22 GPIO6_ADC0, 23 GND, 24 Vin/3.3V, 25 GND, 26 TMS, 27 TDI, 28 TRST_MISO3, 29 TCK, 30 TDO_SCK3

## TCAN332G_1
designator U?, comment TCAN332G
5v; RefDes: RefDes; Type: DEV; Value: Value
footprint SOT65P280X145-8L (SOT23, 8-Leads, Body 2.90x2.80mm, Pitch 0.65mm, IPC High Density)
pins: 1 TXD, 2 VSS, 3 VDD, 4 RXD, 5 NC, 6 CANL, 7 CANH, 8 NC

## TCAN1043HDQ1
designator U?
footprint SO-14 (14-Pin Small Outline Integrated Circuit 1.27 mm Pitch, IPC Medium Density)
pins: 1 TXD, 2 GND, 3 VCC, 4 RXD, 5 VIO, 6 EN, 7 INH, 8 ~{nFAULT}, 9 WAKE, 10 VSUP, 11 NC, 12 CANL, 13 CANH, 14 ~{nSTB}

## TDx01D232H
designator *
ISO RS232
footprint TDx01D232H
pins: 1 VCC, 2 GND, 3 TXD, 4 RXD, 6 R_IN, 7 T_OUT, 8 RGND

## TPIC6B595DWR
designator U?
TPIC6B595DWR, High Voltage, 8-bit Shift Register [SO-20]
footprint SOIC20N (SOIC, 20-Leads, Body 12,80x7,50mm, Pitch 1,27mm, IPC Medium Density)
pins: 2 VCC, 3 SER_IN, 4 DRAIN0, 5 DRAIN1, 6 DRAIN2, 7 DRAIN3, 8 ~{SRCLR}, 9 ~{G}, 10 GND, 11 GND, 12 RCK, 13 SRCK, 14 DRAIN4, 15 DRAIN5, 16 DRAIN6, 17 DRAIN7, 18 SER_OUT, 19 GND

## XR22414CL48TR-F
designator U?
footprint QFN48 (QFN, 48-Leads, Body 6,00x6,00mm, Pitch 0,40mm, Thermal Pad 4,50x4,50mm, IPC Medium Density)
pins: 1 OVC2_N "VBAT", 2 PWR2_N "PC13-ANTI_TAMP/TAMP_1", 3 VCC18 "PC14-OSC32_IN/OSC32_IN", 4 PWR3_N "PC15-OSC32_OUT/OSC32_OUT", 5 OVC3_N "PH0-OSC_IN/OSC_IN", 6 GND "PH1-OSC_OUT/OSC_OUT", 7 OVC4_N "NRST", 8 PWR4_N "VSSA/VREF-", 9 VCC18 "VDDA/VREF+", 10 GND "PA0-WKUP/USART2_CTS,TIM2_CH1/TIM2_ETR,TIM5_CH1/ADC1_0,WKUP", 11 XTALOUT "PA1/USART2_RTS,TIM2_CH2,TIM5_CH2/ADC1_1", 12 XTALIN "PA2/USART2_TX,TIM2_CH3,TIM5_CH3,TIM9_CH1/ADC1_2", 13 VCC33 "PA3/USART2_RX,TIM2_CH4,TIM5_CH4,TIM9_CH2/ADC1_3", 14 DM4 "PA4/SPI1_NSS,SPI3_NSS/I2S3_WS,USART2_CK/ADC1_4", 15 DP4 "PA5/SPI1_SCK,TIM2_CH1/TIM2_ETR/ADC1_5", 16 GND "PA6/SPI1_MISO,TIM1_BKIN,TIM3_CH1/ADC1_6", 17 DM3 "PA7/SPI1_MOSI,TIM1_CH1N,TIM3_CH2/ADC1_7", 18 DP3 "PB0/TIM1_CH2N,TIM3_CH3/ADC1_8", 19 VCC33 "PB1/TIM1_CH3N,TIM3_CH4/ADC1_9", 20 DM2 "PB2", 21 DP2 "PB10/SPI2_SCK/I2S2_CK,I2C2_SCL,TIM2_CH3", 22 GND "VCAP1", 23 DM1 "VSS", 24 DP1 "VDD", 25 GND "PB12/SPI2_NSS/I2S2_WS,I2C2_SMBAL,TIM1_BKIN", 26 1V8_OUT "PB13/SPI2_SCK/I2S2_CK,TIM1_CH1N", 27 VCC33 "PB14/SPI2_MISO,I2S2ext_SD,TIM1_CH2N", 28 REXT "PB15/SPI2_MOSI/I2S2_SD,TIM1_CH3N,RTC_50Hz", 29 VCC18 "PA8/I2C3_SCL,USART1_CK,TIM1_CH1,USB_FS_SOF,MCO_1", 30 UP_DM "PA9/I2C3_SMBAL,USART1_TX,TIM1_CH2,USB_FS_VBUS", 31 UP_DP "PA10/USART1_RX,TIM1_CH3,USB_FS_ID", 32 VCC33 "PA11/USART1_CTS,USART6_TX,TIM1_CH4,USB_FS_DM", 33 GND "PA12/USART1_RTS,USART6_RX,TIM1_ETR,USB_FS_DP", 34 EXT_RST_N "PA13/JTMS-SWDIO", 35 VBUS_SENS "VSS", 36 BUS_PWR_N "VDD", 37 REG_EN_N "PA14/JTCK-SWCLK", 38 VCC5 "PA15/SPI1_NSS,SPI3_NSS/I2S3_WS,TIM2_CH1/TIM2_ETR,JTDI", 39 3V3_OUT "PB3/SPI1_SCK,SPI3_SCK/I2S3_CK,I2C2_SDA,TIM2_CH2,JTDO-SWO", 40 TEST "PB4/SPI1_MISO,SPI3_MISO,I2S3ext_SD,I2C3_SDA,TIM3_CH1,JTRST", 41 VCC33 "PB5/SPI1_MOSI,SPI3_MOSI/I2S3_SD,I2C1_SMBAL,TIM3_CH2", 42 LED_CTL "PB6/I2C1_SCL,USART1_TX,TIM4_CH1", 43 LED1 "PB7/I2C1_SDA,USART1_RX,TIM4_CH2", 44 LED2 "BOOT0", 45 LED3 "PB8/I2C1_SCL,TIM4_CH3,TIM10_CH1,SDIO_D4", 46 LED4 "PB9/SPI2_NSS/I2S2_WS,I2C1_SDA,TIM4_CH4,TIM11_CH1,SDIO_D5", 47 PWR1_N "VSS", 48 OVC1_N "VDD", 49 CPAD "EP"

## ZD24C512A-MAGMT
designator U?
EEPROM 512Kbit (64KB); Part: ZD24C512A-MAGMT; JLCPCBPart: C19725754
footprint UDFN-8_L3.0-W2.0-P0.50-BL-EP-3
pins: 1 A0, 2 A1, 3 A2, 4 GND, 5 SDA, 6 SCL, 7 WP, 8 VCC, 9 EP